# EAGLE library part FUSB302MPX (library MF_IC_Power)
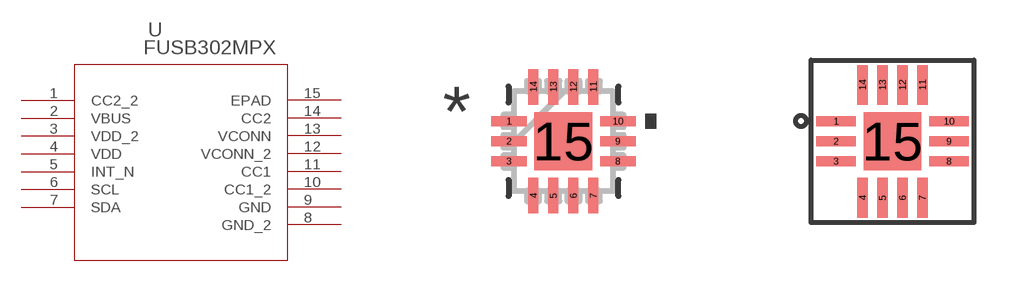
[diagram p4: symbol with the pads of MLP14_2P5X2P5_ONS; footprints MLP14_2P5X2P5_ONS, MLP14_2P5X2P5_ONS-M]

Designator prefix U

## FUSB302MPX (COPYRIGHT: Copyright (C) 2025 Ultra Librarian. All rights reserved.; MANUFACTURER_PART_NUMBER: FUSB302MPX; MFR_NAME: onsemi)  [MLP14_2P5X2P5_ONS]
1  CC2_2
2  VBUS  pas
3  VDD_2  pwr
4  VDD  pwr
5  INT_N  pas
6  SCL  pas
7  SDA  pas
8  GND_2  pas
9  GND  pas
10  CC1_2
11  CC1
12  VCONN_2  pas
13  VCONN  pas
14  CC2
15  EPAD  pas

## FUSB302MPXMLP14_2P5X2P5_ONS-M (COPYRIGHT: Copyright (C) 2025 Ultra Librarian. All rights reserved.; MANUFACTURER_PART_NUMBER: FUSB302MPX; MFR_NAME: onsemi)  [MLP14_2P5X2P5_ONS-M]
Pads as for MLP14_2P5X2P5_ONS

## FUSB302MPXMLP14_2P5X2P5_ONS-L (COPYRIGHT: Copyright (C) 2025 Ultra Librarian. All rights reserved.; MANUFACTURER_PART_NUMBER: FUSB302MPX; MFR_NAME: onsemi)  [MLP14_2P5X2P5_ONS-L]
Pads as for MLP14_2P5X2P5_ONS

## Footprint MLP14_2P5X2P5_ONS (pad centres in mm)
smd 0.889 x 0.254: 1 -1.36,0.5; 2 -1.36,0; 3 -1.36,-0.5; 8 1.36,-0.5; 9 1.36,0; 10 1.36,0.5
smd 0.254 x 0.889: 4 -0.75,-1.36; 5 -0.25,-1.36; 6 0.25,-1.36; 7 0.75,-1.36; 11 0.75,1.36; 12 0.25,1.36; 13 -0.25,1.36; 14 -0.75,1.36
smd 1.448 x 1.448: 15 0,0

## Footprint MLP14_2P5X2P5_ONS-M (pad centres in mm)
smd 0.991 x 0.254: 1 -1.411,0.5; 2 -1.411,0; 3 -1.411,-0.5; 8 1.411,-0.5; 9 1.411,0; 10 1.411,0.5
smd 0.254 x 0.991: 4 -0.75,-1.411; 5 -0.25,-1.411; 6 0.25,-1.411; 7 0.75,-1.411; 11 0.75,1.411; 12 0.25,1.411; 13 -0.25,1.411; 14 -0.75,1.411
smd 1.448 x 1.448: 15 0,0

## Footprint MLP14_2P5X2P5_ONS-L (pad centres in mm)
smd 0.787 x 0.254: 1 -1.31,0.5; 2 -1.31,0; 3 -1.31,-0.5; 8 1.31,-0.5; 9 1.31,0; 10 1.31,0.5
smd 0.254 x 0.787: 4 -0.75,-1.31; 5 -0.25,-1.31; 6 0.25,-1.31; 7 0.75,-1.31; 11 0.75,1.31; 12 0.25,1.31; 13 -0.25,1.31; 14 -0.75,1.31
smd 1.448 x 1.448: 15 0,0